# Altium footprint library diode.PCBLIB: 206 footprints (part 10 of 13)
Each footprint in its own frame and in the unit in brackets; x right, y up, seen from the top. Pads: shape width x height; smd on the part's side, far side on the other; paste and mask are expansions set on the pad; w line width, h text height; cw(c..) or ccw(c..) is an arc to the next point about the centre after c.
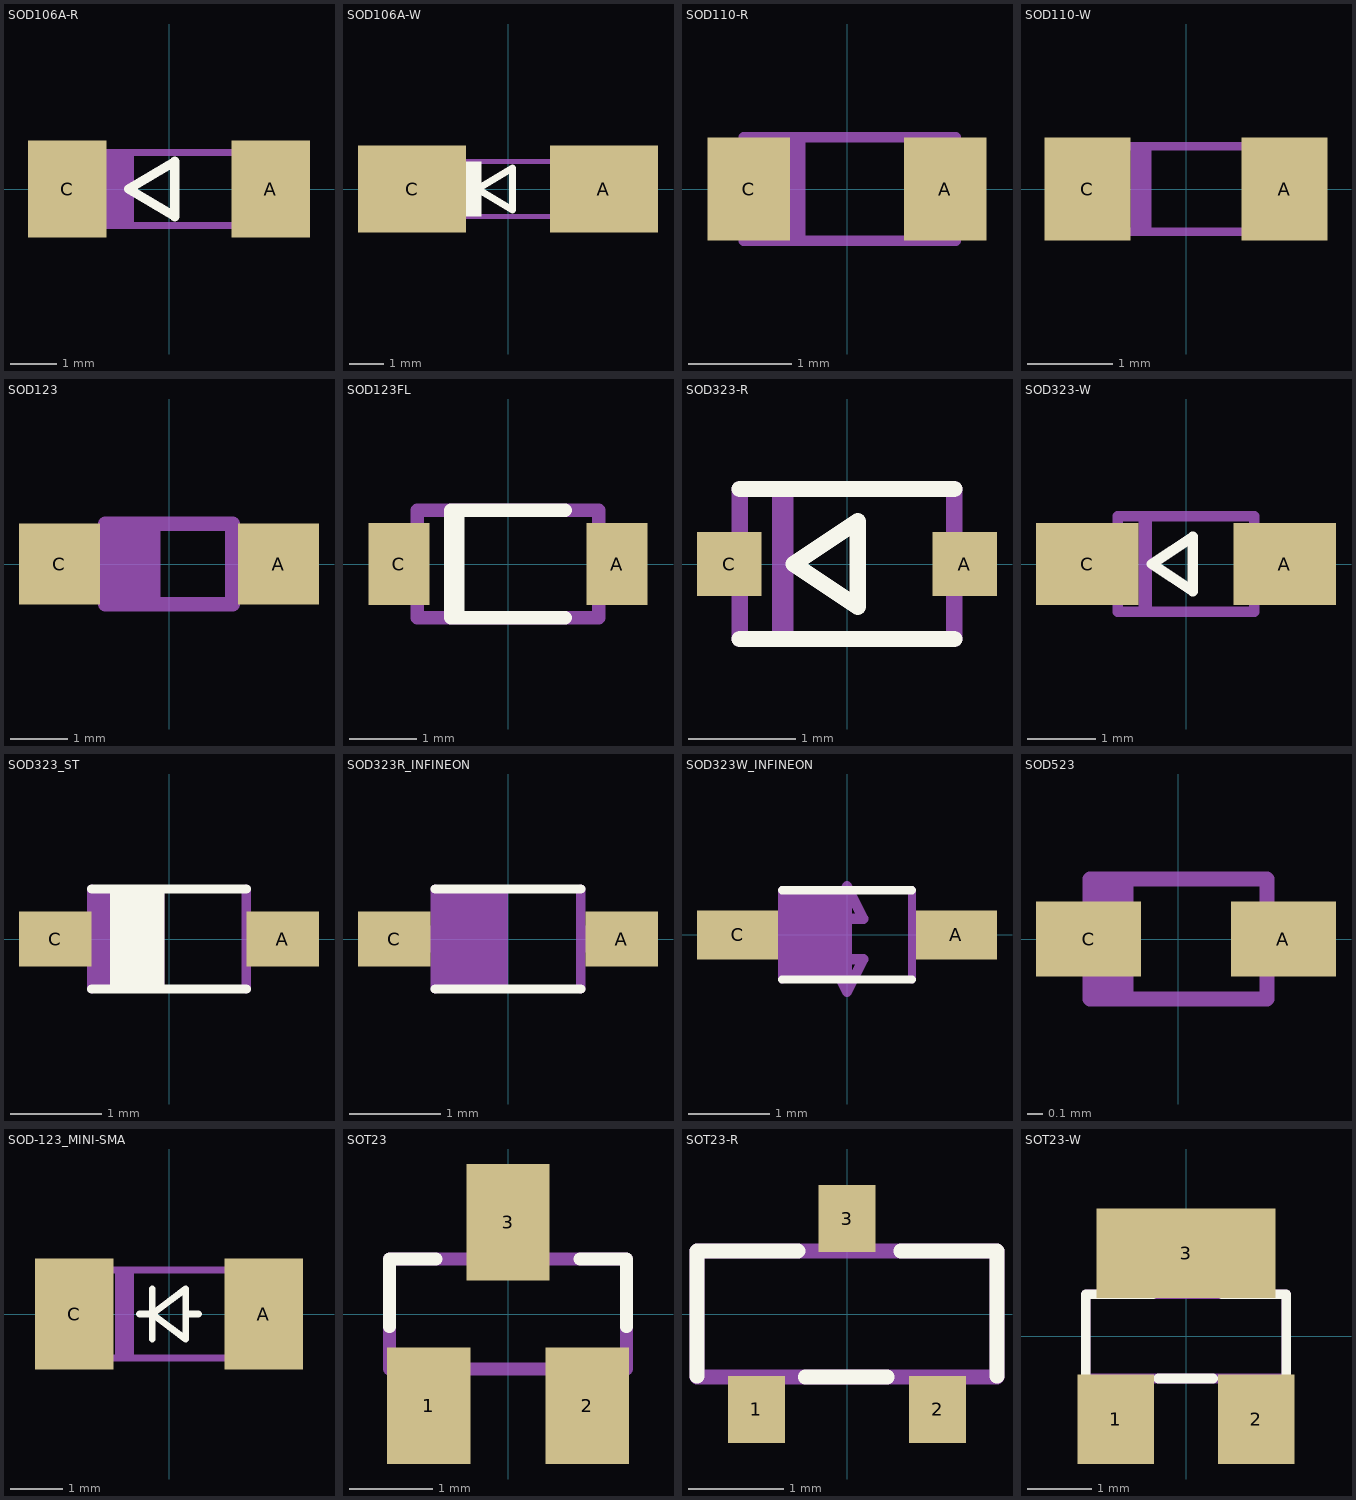
[diagram p9: the footprints below, top view; thin cyan lines are the x and y axes]

## SOD106A-R [mil]
pads (2):
  rect 66.93x82.68 smd: A(86.61,0) C(-86.61,0)
Top Overlay:
  lines w8: -34.37,0 5,23.62 5,-23.62 -34.37,0
Mechanical 16:
  rectangle: -92.69,-34 -70.69,34
  rectangle: 70.69,-34 92.69,34
  rectangle: -53.69,-31 -29.69,31
  lines w6: -71.69,-31 71.69,-31 ; -71.69,31 71.69,31

## SOD106A-W [mil]
pads (2):
  rect 122.05x98.43 smd: A(108.27,0) C(-108.27,0)
Top Overlay:
  rectangle: -53.69,-31 -29.69,31
  lines w8: -34.37,0 5,23.62 5,-23.62 -34.37,0
Mechanical 16:
  rectangle: -92.69,-34 -70.69,34
  rectangle: 70.69,-34 92.69,34
  lines w6: -71.69,-31 71.69,-31 ; -71.69,31 71.69,31

## SOD110-R [mil]
pads (2):
  rect 31.5x39.37 smd: A(37.4,0) C(-37.4,0)
Mechanical 16:
  rectangle: -25.59,-17.72 -15.75,17.72
  lines w4: -39.37,-19.69 41.34,-19.69 41.34,19.69 -39.37,19.69 -39.37,-19.69

## SOD110-W [mm]
pads (2):
  rect 1x1.2 smd: A(1.15,0) C(-1.15,0)
Mechanical 16:
  rectangle: -0.65,-0.45 -0.4,0.45
  lines w0.102: -1,-0.5 1.05,-0.5 1.05,0.5 -1,0.5 -1,-0.5

## SOD123 [mil]
pads (2):
  rect 55.12x55.12 smd: A(74.8,0) C(-74.8,0)
Mechanical 16:
  rectangle: -76.77,-17.72 -47.24,15.75
  rectangle: 47.24,-17.72 76.77,15.75
  rectangle: -41.34,-25.59 -5.91,27.56
  lines w10: -43.31,-27.56 43.31,-27.56 43.31,27.56 -43.31,27.56 -43.31,-27.56

## SOD123FL [mil]
pads (2):
  rect 35.83x48.03 smd: A(63.98,0) C(-63.98,0)
Top Overlay:
  rectangle: -37.4,-30.51 -25.59,31.5
  lines w8: -33.46,-31.5 33.46,-31.5 ; -33.46,31.5 33.46,31.5
Mechanical 16:
  rectangle: -70.87,-21.65 -56.1,21.65
  region: 70.87,21.65 56.1,21.65 56.1,-21.65 70.87,-21.65
  lines w8: -53.15,-31.5 53.15,-31.5 53.15,31.5 -53.15,31.5 -53.15,-31.5

## SOD323-R [mil]
pads (2):
  rect 23.62x23.62 smd: A(43.31,0) C(-43.31,0)
Top Overlay:
  lines w6: -39.37,-27.56 39.37,-27.56 ; -39.37,27.56 39.37,27.56 ; -19.69,0 3.94,15.75 3.94,-15.75 -19.69,0
Mechanical 16:
  rectangle: -27.56,-27.56 -19.69,27.56
  lines w6: -39.37,-27.56 -39.37,27.56 ; 39.37,-27.56 39.37,27.56

## SOD323-W [mil]
pads (2):
  rect 59.06x47.24 smd: A(57.09,0) C(-57.09,0)
Top Overlay:
  lines w6: -19.69,0 3.94,15.75 3.94,-15.75 -19.69,0
Mechanical 16:
  rectangle: -27.56,-27.56 -19.69,27.56
  lines w6: -39.37,-27.56 39.37,-27.56 39.37,27.56 -39.37,27.56 -39.37,-27.56

## SOD323_ST [mil]
pads (2):
  rect 31.5x23.62 smd: A(49.21,0) C(-49.21,0)
Top Overlay:
  rectangle: -25.59,-21.65 -1.97,21.65
  lines w4: -33.46,-21.65 33.46,-21.65 ; -33.46,21.65 33.46,21.65
Mechanical 16:
  rectangle: -53.15,-5.91 -31.5,5.91
  rectangle: 31.5,-5.91 53.15,5.91
  rectangle: -33.46,-21.65 -1.97,21.65
  lines w4: -33.46,-21.65 -33.46,21.65 ; 33.46,-21.65 33.46,21.65

## SOD323R_INFINEON [mil]
pads (2):
  rect 31.5x23.62 smd: A(49.21,0) C(-49.21,0)
Top Overlay:
  lines w4: -31.5,-21.65 31.5,-21.65 ; -31.5,21.65 31.5,21.65
Mechanical 16:
  rectangle: -31.5,-21.65 0,21.65
  rectangle: -49.21,-5.91 -31.5,5.91
  rectangle: 31.5,-5.91 49.21,5.91
  lines w4: -31.5,-21.65 -31.5,21.65 ; 31.5,-21.65 31.5,21.65

## SOD323W_INFINEON [mm]
pads (2):
  rect 1x0.6 smd: A(1.35,0) C(-1.35,0)
Top Overlay:
  lines w0.102: -0.8,-0.55 0.8,-0.55 ; -0.8,0.55 0.8,0.55
Mechanical 13:
  lines w0.127: 0,-0.7 0,0.6 ; 0,-0.7 0.2,-0.3 -0.2,-0.3 0,-0.7 ; 0,0.6 -0.2,0.2 0.2,0.2 0,0.6
  text "direction of pcb" at 0.4,0.4 h0.39
  text "transportation for" at 0.4,-0.05 h0.39
  text "wavesoldering" at 0.4,-0.5 h0.39
Mechanical 16:
  rectangle: -0.8,-0.55 0,0.55
  rectangle: -1.25,-0.15 -0.8,0.15
  rectangle: 0.8,-0.15 1.25,0.15
  lines w0.102: -0.8,-0.55 -0.8,0.55 ; 0.8,-0.55 0.8,0.55

## SOD523 [mil]
pads (2):
  rect 27.56x19.69 smd: A(27.56,0) C(-23.62,0)
Mechanical 16:
  rectangle: -29.53,-6.69 -21.26,6.69
  rectangle: 21.26,-6.69 29.53,6.69
  rectangle: -23.23,-15.75 -11.81,15.75
  lines w4: -23.23,-15.75 23.23,-15.75 23.23,15.75 -23.23,15.75 -23.23,-15.75

## SOD-123_MINI-SMA [mil]
pads (2):
  rect 59.06x82.68 smd: A(70.87,0) C(-70.87,0)
Top Overlay:
  lines w5: -22.1,0 -12.5,0 ; -12.5,-18.75 -12.5,0 ; -12.5,18.75 -12.5,0 ; 22.1,0 12.5,0 ; -12.5,0 12.5,-18.75 12.5,0 ; -12.5,0 12.5,18.75 12.5,0
Mechanical 16:
  rectangle: -76.77,-35.43 -62.5,35.43
  rectangle: 62.5,-35.43 76.77,35.43
  rectangle: -40.35,-35.43 -26.08,35.43
  lines w5: -73.72,-32.87 73.72,-32.87 ; -73.72,32.87 73.72,32.87

## SOT23 [mm]
pads (3):
  rect 1x1.4 smd: 1(-0.95,-1.1) 2(0.95,-1.1) 3(0,1.1)
Top Overlay:
  lines w0.152: -1.422,-0.152 -1.422,0.66 -0.864,0.66 ; 0.864,0.66 1.422,0.66 1.422,-0.152
Mechanical 16:
  rectangle: -1.168,-1.295 -0.711,-0.711
  rectangle: 0.711,-1.295 1.168,-0.711
  rectangle: -0.229,0.711 0.229,1.295
  lines w0.152: -1.422,-0.66 -1.422,0.66 1.422,0.66 1.422,-0.66 -1.422,-0.66
3D body: height 1.06, standoff -0.04, extent -1.5,-1.25 1.5,1.25

## SOT23-R [mm]
pads (3):
  rect 0.6x0.7 smd: 1(-0.95,-1) 2(0.95,-1) 3(0,1)
Top Overlay:
  lines w0.152: -1.573,-0.653 -1.573,0.66 -0.514,0.66 ; -0.436,-0.66 0.422,-0.66 ; 0.564,0.66 1.573,0.66 1.573,-0.653
Mechanical 16:
  rectangle: -0.229,0.711 0.229,1.295
  rectangle: 0.711,-1.295 1.168,-0.711
  rectangle: -1.168,-1.295 -0.711,-0.711
  lines w0.152: -1.573,-0.66 1.573,-0.66 1.573,0.66 -1.573,0.66 -1.573,-0.66

## SOT23-W [mil]
pads (3):
  rect 47.24x55.12 smd: 1(-43.31,-51.18) 2(43.31,-51.18)
  rect 110.24x55.12 smd: 3(0,51.18)
Top Overlay:
  lines w6: -61.91,-25.69 -61.91,26 -20.22,26 ; -17.18,-26 16.63,-26 ; 22.19,26 61.91,26 61.91,-25.69
Mechanical 16:
  rectangle: -9,28 9,51
  rectangle: 28,-51 46,-28
  rectangle: -46,-51 -28,-28
  lines w6: -61.91,-26 61.91,-26 61.91,26 -61.91,26 -61.91,-26